# Altium schematic symbol library Schlib1.SchLib: 7 symbols
Pins are listed as number, name and electrical type; pins without a type are passive.

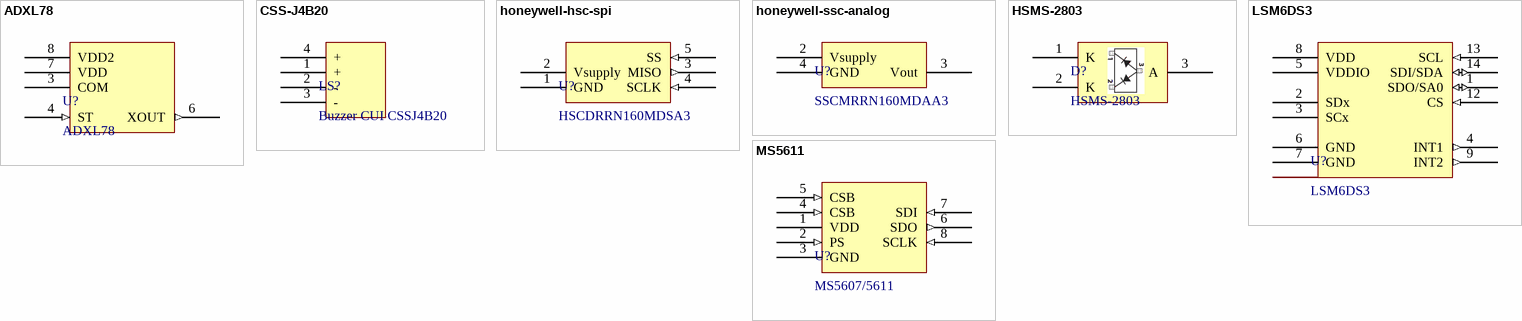
[diagram p0: symbols ADXL78 to MS5611]

## ADXL78
designator U?
footprint ADI-E-8-1_V (LCC, 8-Leads, Body 5x5mm, Pitch 1.27mm)
pins: 3 COM (power), 4 ST (in), 6 XOUT (out), 7 VDD (power), 8 VDD2 (power)

## CSS-J4B20
designator LS?, comment Buzzer CUI CSSJ4B20
footprint CUI Buzzer 8.5
pins: 1 +, 2 -, 3 -, 4 +

## honeywell-hsc-spi
designator U?, comment HSCDRRN160MDSA3
footprint honeywell-hsc-DIP8
pins: 1 GND (power), 2 Vsupply (power), 3 MISO (out), 4 SCLK (in), 5 SS (in)

## honeywell-ssc-analog
designator U?, comment SSCMRRN160MDAA3
pins: 2 Vsupply (power), 3 Vout (power), 4 GND (power)

## HSMS-2803
designator D?
footprint SOT95P240X120-3N (SOT23, 3-Leads, Body 2.93x2.40mm, Pitch 0.95mm, IPC Medium Density)
pins: 1 K, 2 K, 3 A

## LSM6DS3
designator U?
footprint LGA14L_DOT_INDICATOR
pins: 1 SDO/SA0 (io), 2 SDx (oc), 3 SCx (oc), 4 INT1 (out), 5 VDDIO (power), 6 GND (power), 7 GND (power), 8 VDD (power), 9 INT2 (out), 12 CS (in), 13 SCL (in), 14 SDI/SDA (io)

## MS5611
designator U?, comment MS5607/5611
footprint MS5611 (QFN, 8-Leads, Body 3.00x5.00mm, Pitch 1.25mm, Thermal Pad 0.00x0.00mm, IPC Medium Density)
pins: 1 VDD (power), 2 PS (in), 3 GND (power), 4 CSB (in), 5 CSB (in), 6 SDO (out), 7 SDI (in), 8 SCLK (in)